# Altium schematic symbol library inne.SchLib: 1 symbol
Pins are listed as number, name and electrical type; pins without a type are passive.

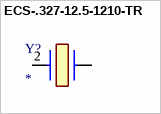
[diagram p0: symbol ECS-.327-12.5-1210-TR]

## ECS-.327-12.5-1210-TR
designator Y?
Crystal or Oscillator; Manufacturer_Name: ECS; Manufacturer_Part_Number: ECS-.327-12.5-1210-TR; Datasheet Link: https://componentsearchengine.com/Datasheets/2/ECS-.327-12.5-1210-TR.pdf; Height: 0.5mm; Mouser Part Number: 520-.327-12.5-1210T; Mouser Price/Stock: https://www.mouser.co.uk/ProductDetail/ECS/ECS-.327-12.5-1210-TR?qs=Mv7BduZupUjcbsJAfNk85g%3D%3D; Arrow Part Number: ECS-.327-12.5-1210-TR; Arrow Price/Stock: https://www.arrow.com/en/products/ecs-.327-12.5-1210-tr/ecs-international?region=nac
footprint FP-ECX-1210-MFG
pins: 2 OUT/IN, ?1